# Altium schematic symbol library CT-1205C.SchLib: 1 symbol
Pins are listed as number, name and electrical type; pins without a type are passive.

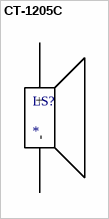
[diagram p0: symbol CT-1205C]

## CT-1205C
designator LS?
PartNumber: CT-1205C-SMT-TR; Manufacturer: CUI Devices; Supplier 1: Digi-Key; Supplier Part Number 1: 102-1200-1-ND
footprint CT-1205C
pins: 1 -, 2 +